# EAGLE library part CARDSLOT_16_3M3368 (library CMU-ArtFab)
Cart Slot style board to board connector; designed to work with 3M 3368
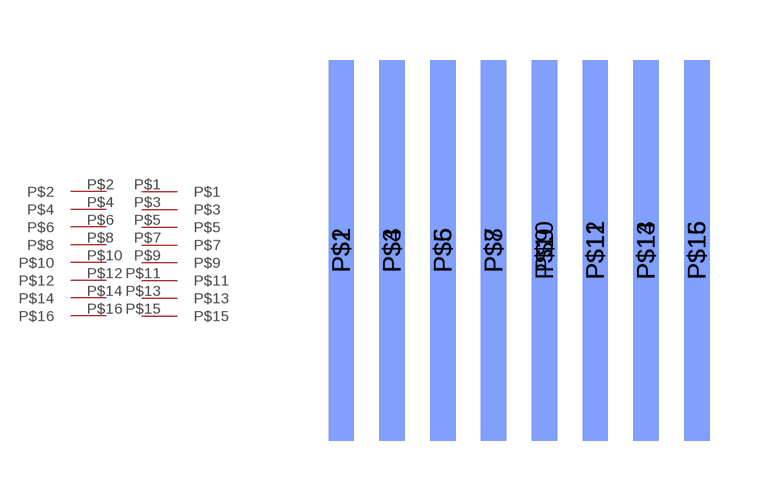
[diagram p2: symbol with the pads of CARDSLOT_16_3M3368; footprint CARDSLOT_16_3M3368]

Designator prefix -

## CARDSLOT_16_3M3368  [CARDSLOT_16_3M3368]
P$1  P$1
P$2  P$2
P$3  P$3
P$4  P$4
P$5  P$5
P$6  P$6
P$7  P$7
P$8  P$8
P$9  P$9
P$10  P$10
P$11  P$11
P$12  P$12
P$13  P$13
P$14  P$14
P$15  P$15
P$16  P$16

## Footprint CARDSLOT_16_3M3368 (pad centres in mm)
smd 0.635 x 9.525: P$1 0,5.08; P$3 1.27,5.08; P$5 2.54,5.08; P$7 3.81,5.08; P$9 5.08,5.08; P$11 6.35,5.08; P$13 7.62,5.08; P$15 8.89,5.08
smd 0.635 x 9.525 bottom: P$2 0,5.08; P$4 1.27,5.08; P$6 2.54,5.08; P$8 3.81,5.08; P$10 5.08,5.08; P$12 6.35,5.08; P$14 7.62,5.08; P$16 8.89,5.08